# Altium schematic symbol library Schlib_OKB_MEL.SchLib: 3 symbols
Pins are listed as number, name and electrical type; pins without a type are passive.

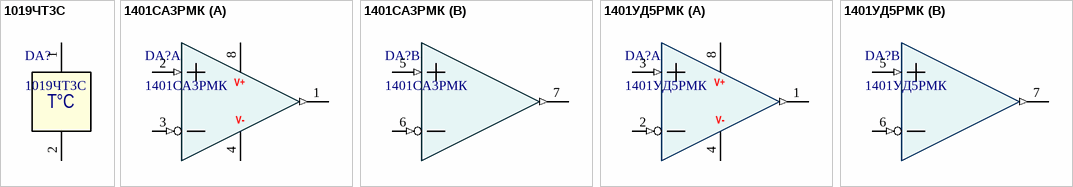
[diagram p0: symbols 1019ЧТ3С to 1401УД5РМК]

## 1019ЧТ3С
designator DA?
2-Terminal IC Temperature Transducer; Manufacturer: ЗАО «ОКБ МЭЛ»; ТУ: АЕЯР.431320.507 ТУ; Reference IC: AD590; Part Number: 1019ЧТ3С; Package: КТ-1-4.03Н; ComponentLink1Description: Reference IC Datasheet; ComponentLink1URL: https://www.analog.com/media/en/technical-documentation/data-sheets/AD590.pdf
footprint KT-1-4.03H
pins: 1 SENS_P, 2 SENS_N
text: T°C

## 1401СА3РМК
designator DA?
Dual Comparators; Manufacturer: ЗАО «ОКБ МЭЛ»; ТУ: АЕЯР.431000.815-03ТУ; Part Number: 1401СА3РМК; Package: 2101.8-7
footprint 2101.8-7
part A pins: 1 1OUT (out), 2 1IN+ (in), 3 1IN- (in), 4 VEE (power), 8 VCC (power)
part B pins: 5 2IN+ (in), 6 2IN- (in), 7 2OUT (out)
part A text: V+; V-

## 1401УД5РМК
designator DA?
Dual Operational Amplifiers; Manufacturer: ЗАО «ОКБ МЭЛ»; ТУ: АЕЯР.431000.815-01ТУ; Part Number: 1401УД5РМК; Package: 2101.8-7
footprint 2101.8-7
part A pins: 1 1OUT (out), 2 1IN- (in), 3 1IN+ (in), 4 VEE (power), 8 VCC (power)
part B pins: 5 2IN+ (in), 6 2IN- (in), 7 2OUT (out)
part A text: V+; V-